# Altium schematic symbol library Resistors.SchLib: 113 symbols (part 2 of 2)
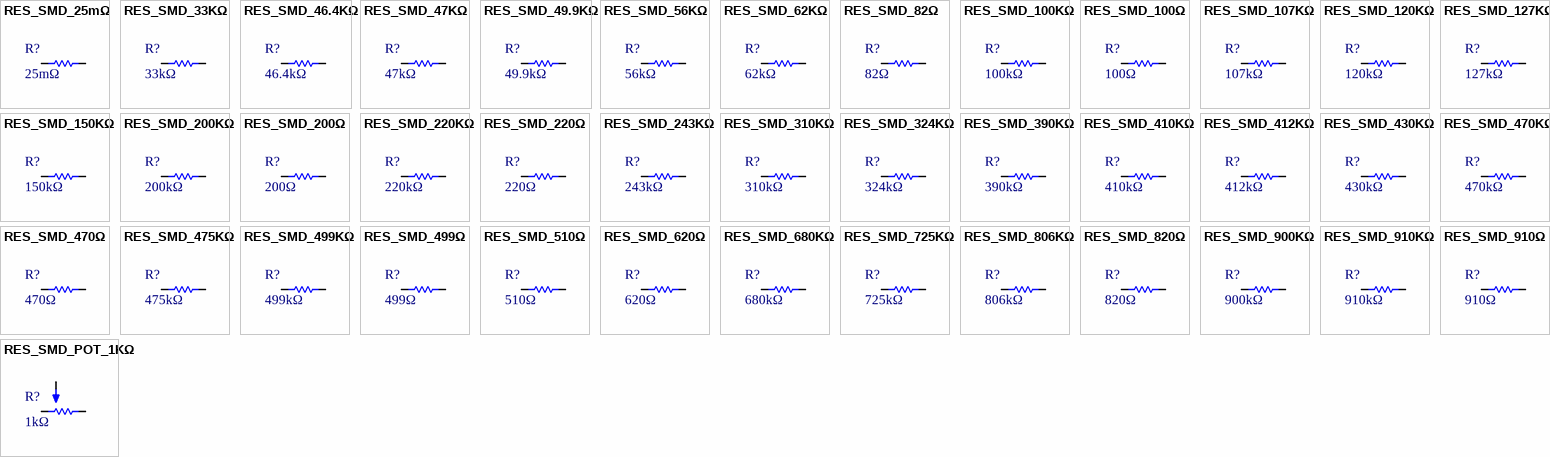
[diagram p3: symbols RES_SMD_25mΩ to RES_SMD_POT_1KΩ]

## RES_SMD_127KΩ
designator R?, comment 127kΩ
Resistor, Thick Film Resistor, SMD, 127kΩ, ±5%, Chip Resistor - Surface Mount, ROHS; Value: 127kΩ
footprint RES_SMD_R0201A_(M0603A) (Resistor, SMD, 0.5x0.25mm, 0201)
footprint RES_SMD_R0201_(M0603) (Resistor, SMD, 0.5x0.25mm, 0201)
footprint RES_SMD_R0402A_(M1005A) (Resistor, SMD, 1.0x0.5mm, 0402)
footprint RES_SMD_R0402_(M1005) (Resistor, SMD, 1.0x0.5mm, 0402)
footprint RES_SMD_R0603A_(M1608A) (Resistor, SMD, 1.6x0.8mm, 0603)
footprint RES_SMD_R0603_(M1608) (Resistor, SMD, 1.6x0.8mm, 0603)
footprint RES_SMD_R0805A_(M2012A) (Resistor, SMD, 2.0x1.3mm, 0805)
footprint RES_SMD_R0805_(M2012) (Resistor, SMD, 2.0x1.3mm, 0805)
footprint RES_SMD_R1206A_(M3216A) (Resistor, SMD, 3.2x1.6mm, 1206)
footprint RES_SMD_R1206_(M3216) (Resistor, SMD, 3.2x1.6mm, 1206)
footprint RES_SMD_R2512_(M6332) (Resistor, SMD, 2510)
footprint RES_SMD_R0603_(M1608)_R0402A_(M1005A) (Resistor, SMD, 1.6x0.8mm, 0603)
pins: 1, 2

## RES_SMD_150KΩ
designator R?, comment 150kΩ
Resistor, Thick Film Resistor, SMD, 150kΩ, ±5%, Chip Resistor - Surface Mount, ROHS; Value: 150kΩ
footprint RES_SMD_R0201A_(M0603A) (Resistor, SMD, 0.5x0.25mm, 0201)
footprint RES_SMD_R0201_(M0603) (Resistor, SMD, 0.5x0.25mm, 0201)
footprint RES_SMD_R0402A_(M1005A) (Resistor, SMD, 1.0x0.5mm, 0402)
footprint RES_SMD_R0402_(M1005) (Resistor, SMD, 1.0x0.5mm, 0402)
footprint RES_SMD_R0603A_(M1608A) (Resistor, SMD, 1.6x0.8mm, 0603)
footprint RES_SMD_R0603_(M1608) (Resistor, SMD, 1.6x0.8mm, 0603)
footprint RES_SMD_R0805A_(M2012A) (Resistor, SMD, 2.0x1.3mm, 0805)
footprint RES_SMD_R0805_(M2012) (Resistor, SMD, 2.0x1.3mm, 0805)
footprint RES_SMD_R1206A_(M3216A) (Resistor, SMD, 3.2x1.6mm, 1206)
footprint RES_SMD_R1206_(M3216) (Resistor, SMD, 3.2x1.6mm, 1206)
footprint RES_SMD_R2512_(M6332) (Resistor, SMD, 2510)
footprint RES_SMD_R0603_(M1608)_R0402A_(M1005A) (Resistor, SMD, 1.6x0.8mm, 0603)
pins: 1, 2

## RES_SMD_200KΩ
designator R?, comment 200kΩ
Resistor, Thick Film Resistor, SMD, 200kΩ, ±5%, Chip Resistor - Surface Mount, ROHS; Value: 200kΩ
footprint RES_SMD_R0201A_(M0603A) (Resistor, SMD, 0.5x0.25mm, 0201)
footprint RES_SMD_R0201_(M0603) (Resistor, SMD, 0.5x0.25mm, 0201)
footprint RES_SMD_R0402A_(M1005A) (Resistor, SMD, 1.0x0.5mm, 0402)
footprint RES_SMD_R0402_(M1005) (Resistor, SMD, 1.0x0.5mm, 0402)
footprint RES_SMD_R0603A_(M1608A) (Resistor, SMD, 1.6x0.8mm, 0603)
footprint RES_SMD_R0603_(M1608) (Resistor, SMD, 1.6x0.8mm, 0603)
footprint RES_SMD_R0805A_(M2012A) (Resistor, SMD, 2.0x1.3mm, 0805)
footprint RES_SMD_R0805_(M2012) (Resistor, SMD, 2.0x1.3mm, 0805)
footprint RES_SMD_R1206A_(M3216A) (Resistor, SMD, 3.2x1.6mm, 1206)
footprint RES_SMD_R1206_(M3216) (Resistor, SMD, 3.2x1.6mm, 1206)
footprint RES_SMD_R2512_(M6332) (Resistor, SMD, 2510)
footprint RES_SMD_R0603_(M1608)_R0402A_(M1005A) (Resistor, SMD, 1.6x0.8mm, 0603)
pins: 1, 2

## RES_SMD_200Ω
designator R?, comment 200Ω
Resistor, Thick Film Resistor, SMD, 200Ω, ±5%, Chip Resistor - Surface Mount, ROHS; Value: 200Ω
footprint RES_SMD_R0201A_(M0603A) (Resistor, SMD, 0.5x0.25mm, 0201)
footprint RES_SMD_R0201_(M0603) (Resistor, SMD, 0.5x0.25mm, 0201)
footprint RES_SMD_R0402A_(M1005A) (Resistor, SMD, 1.0x0.5mm, 0402)
footprint RES_SMD_R0402_(M1005) (Resistor, SMD, 1.0x0.5mm, 0402)
footprint RES_SMD_R0603A_(M1608A) (Resistor, SMD, 1.6x0.8mm, 0603)
footprint RES_SMD_R0603_(M1608) (Resistor, SMD, 1.6x0.8mm, 0603)
footprint RES_SMD_R0805A_(M2012A) (Resistor, SMD, 2.0x1.3mm, 0805)
footprint RES_SMD_R0805_(M2012) (Resistor, SMD, 2.0x1.3mm, 0805)
footprint RES_SMD_R1206A_(M3216A) (Resistor, SMD, 3.2x1.6mm, 1206)
footprint RES_SMD_R1206_(M3216) (Resistor, SMD, 3.2x1.6mm, 1206)
footprint RES_SMD_R2512_(M6332) (Resistor, SMD, 2510)
footprint RES_SMD_R0603_(M1608)_R0402A_(M1005A) (Resistor, SMD, 1.6x0.8mm, 0603)
pins: 1, 2

## RES_SMD_220KΩ
designator R?, comment 220kΩ
Resistor, Thick Film Resistor, SMD, 220kΩ, ±5%, Chip Resistor - Surface Mount, ROHS; Value: 220kΩ
footprint RES_SMD_R0201A_(M0603A) (Resistor, SMD, 0.5x0.25mm, 0201)
footprint RES_SMD_R0201_(M0603) (Resistor, SMD, 0.5x0.25mm, 0201)
footprint RES_SMD_R0402A_(M1005A) (Resistor, SMD, 1.0x0.5mm, 0402)
footprint RES_SMD_R0402_(M1005) (Resistor, SMD, 1.0x0.5mm, 0402)
footprint RES_SMD_R0603A_(M1608A) (Resistor, SMD, 1.6x0.8mm, 0603)
footprint RES_SMD_R0603_(M1608) (Resistor, SMD, 1.6x0.8mm, 0603)
footprint RES_SMD_R0805A_(M2012A) (Resistor, SMD, 2.0x1.3mm, 0805)
footprint RES_SMD_R0805_(M2012) (Resistor, SMD, 2.0x1.3mm, 0805)
footprint RES_SMD_R1206A_(M3216A) (Resistor, SMD, 3.2x1.6mm, 1206)
footprint RES_SMD_R1206_(M3216) (Resistor, SMD, 3.2x1.6mm, 1206)
footprint RES_SMD_R2512_(M6332) (Resistor, SMD, 2510)
footprint RES_SMD_R0603_(M1608)_R0402A_(M1005A) (Resistor, SMD, 1.6x0.8mm, 0603)
pins: 1, 2

## RES_SMD_220Ω
designator R?, comment 220Ω
Resistor, Thick Film Resistor, SMD, 220Ω, ±5%, Chip Resistor - Surface Mount, ROHS; Value: 220Ω
footprint RES_SMD_R0201A_(M0603A) (Resistor, SMD, 0.5x0.25mm, 0201)
footprint RES_SMD_R0201_(M0603) (Resistor, SMD, 0.5x0.25mm, 0201)
footprint RES_SMD_R0402A_(M1005A) (Resistor, SMD, 1.0x0.5mm, 0402)
footprint RES_SMD_R0402_(M1005) (Resistor, SMD, 1.0x0.5mm, 0402)
footprint RES_SMD_R0603A_(M1608A) (Resistor, SMD, 1.6x0.8mm, 0603)
footprint RES_SMD_R0603_(M1608) (Resistor, SMD, 1.6x0.8mm, 0603)
footprint RES_SMD_R0805A_(M2012A) (Resistor, SMD, 2.0x1.3mm, 0805)
footprint RES_SMD_R0805_(M2012) (Resistor, SMD, 2.0x1.3mm, 0805)
footprint RES_SMD_R1206A_(M3216A) (Resistor, SMD, 3.2x1.6mm, 1206)
footprint RES_SMD_R1206_(M3216) (Resistor, SMD, 3.2x1.6mm, 1206)
footprint RES_SMD_R2512_(M6332) (Resistor, SMD, 2510)
footprint RES_SMD_R0603_(M1608)_R0402A_(M1005A) (Resistor, SMD, 1.6x0.8mm, 0603)
pins: 1, 2

## RES_SMD_243KΩ
designator R?, comment 243kΩ
Resistor, Thick Film Resistor, SMD, 243kΩ, ±5%, Chip Resistor - Surface Mount, ROHS; Value: 243kΩ
footprint RES_SMD_R0201A_(M0603A) (Resistor, SMD, 0.5x0.25mm, 0201)
footprint RES_SMD_R0201_(M0603) (Resistor, SMD, 0.5x0.25mm, 0201)
footprint RES_SMD_R0402A_(M1005A) (Resistor, SMD, 1.0x0.5mm, 0402)
footprint RES_SMD_R0402_(M1005) (Resistor, SMD, 1.0x0.5mm, 0402)
footprint RES_SMD_R0603A_(M1608A) (Resistor, SMD, 1.6x0.8mm, 0603)
footprint RES_SMD_R0603_(M1608) (Resistor, SMD, 1.6x0.8mm, 0603)
footprint RES_SMD_R0805A_(M2012A) (Resistor, SMD, 2.0x1.3mm, 0805)
footprint RES_SMD_R0805_(M2012) (Resistor, SMD, 2.0x1.3mm, 0805)
footprint RES_SMD_R1206A_(M3216A) (Resistor, SMD, 3.2x1.6mm, 1206)
footprint RES_SMD_R1206_(M3216) (Resistor, SMD, 3.2x1.6mm, 1206)
footprint RES_SMD_R2512_(M6332) (Resistor, SMD, 2510)
footprint RES_SMD_R0603_(M1608)_R0402A_(M1005A) (Resistor, SMD, 1.6x0.8mm, 0603)
pins: 1, 2

## RES_SMD_310KΩ
designator R?, comment 310kΩ
Resistor, Thick Film Resistor, SMD, 310kΩ, ±5%, Chip Resistor - Surface Mount, ROHS; Value: 310kΩ
footprint RES_SMD_R0201A_(M0603A) (Resistor, SMD, 0.5x0.25mm, 0201)
footprint RES_SMD_R0201_(M0603) (Resistor, SMD, 0.5x0.25mm, 0201)
footprint RES_SMD_R0402A_(M1005A) (Resistor, SMD, 1.0x0.5mm, 0402)
footprint RES_SMD_R0402_(M1005) (Resistor, SMD, 1.0x0.5mm, 0402)
footprint RES_SMD_R0603A_(M1608A) (Resistor, SMD, 1.6x0.8mm, 0603)
footprint RES_SMD_R0603_(M1608) (Resistor, SMD, 1.6x0.8mm, 0603)
footprint RES_SMD_R0805A_(M2012A) (Resistor, SMD, 2.0x1.3mm, 0805)
footprint RES_SMD_R0805_(M2012) (Resistor, SMD, 2.0x1.3mm, 0805)
footprint RES_SMD_R1206A_(M3216A) (Resistor, SMD, 3.2x1.6mm, 1206)
footprint RES_SMD_R1206_(M3216) (Resistor, SMD, 3.2x1.6mm, 1206)
footprint RES_SMD_R2512_(M6332) (Resistor, SMD, 2510)
footprint RES_SMD_R0603_(M1608)_R0402A_(M1005A) (Resistor, SMD, 1.6x0.8mm, 0603)
pins: 1, 2

## RES_SMD_324KΩ
designator R?, comment 324kΩ
Resistor, Thick Film Resistor, SMD, 324kΩ, ±5%, Chip Resistor - Surface Mount, ROHS; Value: 324kΩ
footprint RES_SMD_R0201A_(M0603A) (Resistor, SMD, 0.5x0.25mm, 0201)
footprint RES_SMD_R0201_(M0603) (Resistor, SMD, 0.5x0.25mm, 0201)
footprint RES_SMD_R0402A_(M1005A) (Resistor, SMD, 1.0x0.5mm, 0402)
footprint RES_SMD_R0402_(M1005) (Resistor, SMD, 1.0x0.5mm, 0402)
footprint RES_SMD_R0603A_(M1608A) (Resistor, SMD, 1.6x0.8mm, 0603)
footprint RES_SMD_R0603_(M1608) (Resistor, SMD, 1.6x0.8mm, 0603)
footprint RES_SMD_R0805A_(M2012A) (Resistor, SMD, 2.0x1.3mm, 0805)
footprint RES_SMD_R0805_(M2012) (Resistor, SMD, 2.0x1.3mm, 0805)
footprint RES_SMD_R1206A_(M3216A) (Resistor, SMD, 3.2x1.6mm, 1206)
footprint RES_SMD_R1206_(M3216) (Resistor, SMD, 3.2x1.6mm, 1206)
footprint RES_SMD_R2512_(M6332) (Resistor, SMD, 2510)
footprint RES_SMD_R0603_(M1608)_R0402A_(M1005A) (Resistor, SMD, 1.6x0.8mm, 0603)
pins: 1, 2

## RES_SMD_390KΩ
designator R?, comment 390kΩ
Resistor, Thick Film Resistor, SMD, 390kΩ, ±5%, Chip Resistor - Surface Mount, ROHS; Value: 390kΩ
footprint RES_SMD_R0201A_(M0603A) (Resistor, SMD, 0.5x0.25mm, 0201)
footprint RES_SMD_R0201_(M0603) (Resistor, SMD, 0.5x0.25mm, 0201)
footprint RES_SMD_R0402A_(M1005A) (Resistor, SMD, 1.0x0.5mm, 0402)
footprint RES_SMD_R0402_(M1005) (Resistor, SMD, 1.0x0.5mm, 0402)
footprint RES_SMD_R0603A_(M1608A) (Resistor, SMD, 1.6x0.8mm, 0603)
footprint RES_SMD_R0603_(M1608) (Resistor, SMD, 1.6x0.8mm, 0603)
footprint RES_SMD_R0805A_(M2012A) (Resistor, SMD, 2.0x1.3mm, 0805)
footprint RES_SMD_R0805_(M2012) (Resistor, SMD, 2.0x1.3mm, 0805)
footprint RES_SMD_R1206A_(M3216A) (Resistor, SMD, 3.2x1.6mm, 1206)
footprint RES_SMD_R1206_(M3216) (Resistor, SMD, 3.2x1.6mm, 1206)
footprint RES_SMD_R2512_(M6332) (Resistor, SMD, 2510)
footprint RES_SMD_R0603_(M1608)_R0402A_(M1005A) (Resistor, SMD, 1.6x0.8mm, 0603)
pins: 1, 2

## RES_SMD_410KΩ
designator R?, comment 410kΩ
Resistor, Thick Film Resistor, SMD, 410kΩ, ±5%, Chip Resistor - Surface Mount, ROHS; Value: 410kΩ
footprint RES_SMD_R0201A_(M0603A) (Resistor, SMD, 0.5x0.25mm, 0201)
footprint RES_SMD_R0201_(M0603) (Resistor, SMD, 0.5x0.25mm, 0201)
footprint RES_SMD_R0402A_(M1005A) (Resistor, SMD, 1.0x0.5mm, 0402)
footprint RES_SMD_R0402_(M1005) (Resistor, SMD, 1.0x0.5mm, 0402)
footprint RES_SMD_R0603A_(M1608A) (Resistor, SMD, 1.6x0.8mm, 0603)
footprint RES_SMD_R0603_(M1608) (Resistor, SMD, 1.6x0.8mm, 0603)
footprint RES_SMD_R0805A_(M2012A) (Resistor, SMD, 2.0x1.3mm, 0805)
footprint RES_SMD_R0805_(M2012) (Resistor, SMD, 2.0x1.3mm, 0805)
footprint RES_SMD_R1206A_(M3216A) (Resistor, SMD, 3.2x1.6mm, 1206)
footprint RES_SMD_R1206_(M3216) (Resistor, SMD, 3.2x1.6mm, 1206)
footprint RES_SMD_R2512_(M6332) (Resistor, SMD, 2510)
footprint RES_SMD_R0603_(M1608)_R0402A_(M1005A) (Resistor, SMD, 1.6x0.8mm, 0603)
pins: 1, 2

## RES_SMD_412KΩ
designator R?, comment 412kΩ
Resistor, Thick Film Resistor, SMD, 412kΩ, ±5%, Chip Resistor - Surface Mount, ROHS; Value: 412kΩ
footprint RES_SMD_R0201A_(M0603A) (Resistor, SMD, 0.5x0.25mm, 0201)
footprint RES_SMD_R0201_(M0603) (Resistor, SMD, 0.5x0.25mm, 0201)
footprint RES_SMD_R0402A_(M1005A) (Resistor, SMD, 1.0x0.5mm, 0402)
footprint RES_SMD_R0402_(M1005) (Resistor, SMD, 1.0x0.5mm, 0402)
footprint RES_SMD_R0603A_(M1608A) (Resistor, SMD, 1.6x0.8mm, 0603)
footprint RES_SMD_R0603_(M1608) (Resistor, SMD, 1.6x0.8mm, 0603)
footprint RES_SMD_R0805A_(M2012A) (Resistor, SMD, 2.0x1.3mm, 0805)
footprint RES_SMD_R0805_(M2012) (Resistor, SMD, 2.0x1.3mm, 0805)
footprint RES_SMD_R1206A_(M3216A) (Resistor, SMD, 3.2x1.6mm, 1206)
footprint RES_SMD_R1206_(M3216) (Resistor, SMD, 3.2x1.6mm, 1206)
footprint RES_SMD_R2512_(M6332) (Resistor, SMD, 2510)
footprint RES_SMD_R0603_(M1608)_R0402A_(M1005A) (Resistor, SMD, 1.6x0.8mm, 0603)
pins: 1, 2

## RES_SMD_430KΩ
designator R?, comment 430kΩ
Resistor, Thick Film Resistor, SMD, 430kΩ, ±5%, Chip Resistor - Surface Mount, ROHS; Value: 430kΩ
footprint RES_SMD_R0201A_(M0603A) (Resistor, SMD, 0.5x0.25mm, 0201)
footprint RES_SMD_R0201_(M0603) (Resistor, SMD, 0.5x0.25mm, 0201)
footprint RES_SMD_R0402A_(M1005A) (Resistor, SMD, 1.0x0.5mm, 0402)
footprint RES_SMD_R0402_(M1005) (Resistor, SMD, 1.0x0.5mm, 0402)
footprint RES_SMD_R0603A_(M1608A) (Resistor, SMD, 1.6x0.8mm, 0603)
footprint RES_SMD_R0603_(M1608) (Resistor, SMD, 1.6x0.8mm, 0603)
footprint RES_SMD_R0805A_(M2012A) (Resistor, SMD, 2.0x1.3mm, 0805)
footprint RES_SMD_R0805_(M2012) (Resistor, SMD, 2.0x1.3mm, 0805)
footprint RES_SMD_R1206A_(M3216A) (Resistor, SMD, 3.2x1.6mm, 1206)
footprint RES_SMD_R1206_(M3216) (Resistor, SMD, 3.2x1.6mm, 1206)
footprint RES_SMD_R2512_(M6332) (Resistor, SMD, 2510)
footprint RES_SMD_R0603_(M1608)_R0402A_(M1005A) (Resistor, SMD, 1.6x0.8mm, 0603)
pins: 1, 2

## RES_SMD_470KΩ
designator R?, comment 470kΩ
Resistor, Thick Film Resistor, SMD, 470kΩ, ±5%, Chip Resistor - Surface Mount, ROHS; Value: 470kΩ
footprint RES_SMD_R0201A_(M0603A) (Resistor, SMD, 0.5x0.25mm, 0201)
footprint RES_SMD_R0201_(M0603) (Resistor, SMD, 0.5x0.25mm, 0201)
footprint RES_SMD_R0402A_(M1005A) (Resistor, SMD, 1.0x0.5mm, 0402)
footprint RES_SMD_R0402_(M1005) (Resistor, SMD, 1.0x0.5mm, 0402)
footprint RES_SMD_R0603A_(M1608A) (Resistor, SMD, 1.6x0.8mm, 0603)
footprint RES_SMD_R0603_(M1608) (Resistor, SMD, 1.6x0.8mm, 0603)
footprint RES_SMD_R0805A_(M2012A) (Resistor, SMD, 2.0x1.3mm, 0805)
footprint RES_SMD_R0805_(M2012) (Resistor, SMD, 2.0x1.3mm, 0805)
footprint RES_SMD_R1206A_(M3216A) (Resistor, SMD, 3.2x1.6mm, 1206)
footprint RES_SMD_R1206_(M3216) (Resistor, SMD, 3.2x1.6mm, 1206)
footprint RES_SMD_R2512_(M6332) (Resistor, SMD, 2510)
footprint RES_SMD_R0603_(M1608)_R0402A_(M1005A) (Resistor, SMD, 1.6x0.8mm, 0603)
pins: 1, 2

## RES_SMD_470Ω
designator R?, comment 470Ω
Resistor, Thick Film Resistor, SMD, 470Ω, ±5%, Chip Resistor - Surface Mount, ROHS; Value: 470Ω
footprint RES_SMD_R0201A_(M0603A) (Resistor, SMD, 0.5x0.25mm, 0201)
footprint RES_SMD_R0201_(M0603) (Resistor, SMD, 0.5x0.25mm, 0201)
footprint RES_SMD_R0402A_(M1005A) (Resistor, SMD, 1.0x0.5mm, 0402)
footprint RES_SMD_R0402_(M1005) (Resistor, SMD, 1.0x0.5mm, 0402)
footprint RES_SMD_R0603A_(M1608A) (Resistor, SMD, 1.6x0.8mm, 0603)
footprint RES_SMD_R0603_(M1608) (Resistor, SMD, 1.6x0.8mm, 0603)
footprint RES_SMD_R0805A_(M2012A) (Resistor, SMD, 2.0x1.3mm, 0805)
footprint RES_SMD_R0805_(M2012) (Resistor, SMD, 2.0x1.3mm, 0805)
footprint RES_SMD_R1206A_(M3216A) (Resistor, SMD, 3.2x1.6mm, 1206)
footprint RES_SMD_R1206_(M3216) (Resistor, SMD, 3.2x1.6mm, 1206)
footprint RES_SMD_R2512_(M6332) (Resistor, SMD, 2510)
footprint RES_SMD_R0603_(M1608)_R0402A_(M1005A) (Resistor, SMD, 1.6x0.8mm, 0603)
pins: 1, 2

## RES_SMD_475KΩ
designator R?, comment 475kΩ
Resistor, Thick Film Resistor, SMD, 475kΩ, ±5%, Chip Resistor - Surface Mount, ROHS; Value: 475kΩ
footprint RES_SMD_R0201A_(M0603A) (Resistor, SMD, 0.5x0.25mm, 0201)
footprint RES_SMD_R0201_(M0603) (Resistor, SMD, 0.5x0.25mm, 0201)
footprint RES_SMD_R0402A_(M1005A) (Resistor, SMD, 1.0x0.5mm, 0402)
footprint RES_SMD_R0402_(M1005) (Resistor, SMD, 1.0x0.5mm, 0402)
footprint RES_SMD_R0603A_(M1608A) (Resistor, SMD, 1.6x0.8mm, 0603)
footprint RES_SMD_R0603_(M1608) (Resistor, SMD, 1.6x0.8mm, 0603)
footprint RES_SMD_R0805A_(M2012A) (Resistor, SMD, 2.0x1.3mm, 0805)
footprint RES_SMD_R0805_(M2012) (Resistor, SMD, 2.0x1.3mm, 0805)
footprint RES_SMD_R1206A_(M3216A) (Resistor, SMD, 3.2x1.6mm, 1206)
footprint RES_SMD_R1206_(M3216) (Resistor, SMD, 3.2x1.6mm, 1206)
footprint RES_SMD_R2512_(M6332) (Resistor, SMD, 2510)
footprint RES_SMD_R0603_(M1608)_R0402A_(M1005A) (Resistor, SMD, 1.6x0.8mm, 0603)
pins: 1, 2

## RES_SMD_499KΩ
designator R?, comment 499kΩ
Resistor, Thick Film Resistor, SMD, 499kΩ, ±5%, Chip Resistor - Surface Mount, ROHS; Value: 499kΩ
footprint RES_SMD_R0201A_(M0603A) (Resistor, SMD, 0.5x0.25mm, 0201)
footprint RES_SMD_R0201_(M0603) (Resistor, SMD, 0.5x0.25mm, 0201)
footprint RES_SMD_R0402A_(M1005A) (Resistor, SMD, 1.0x0.5mm, 0402)
footprint RES_SMD_R0402_(M1005) (Resistor, SMD, 1.0x0.5mm, 0402)
footprint RES_SMD_R0603A_(M1608A) (Resistor, SMD, 1.6x0.8mm, 0603)
footprint RES_SMD_R0603_(M1608) (Resistor, SMD, 1.6x0.8mm, 0603)
footprint RES_SMD_R0805A_(M2012A) (Resistor, SMD, 2.0x1.3mm, 0805)
footprint RES_SMD_R0805_(M2012) (Resistor, SMD, 2.0x1.3mm, 0805)
footprint RES_SMD_R1206A_(M3216A) (Resistor, SMD, 3.2x1.6mm, 1206)
footprint RES_SMD_R1206_(M3216) (Resistor, SMD, 3.2x1.6mm, 1206)
footprint RES_SMD_R2512_(M6332) (Resistor, SMD, 2510)
footprint RES_SMD_R0603_(M1608)_R0402A_(M1005A) (Resistor, SMD, 1.6x0.8mm, 0603)
pins: 1, 2

## RES_SMD_499Ω
designator R?, comment 499Ω
Resistor, Thick Film Resistor, SMD, 499Ω, ±5%, Chip Resistor - Surface Mount, ROHS; Value: 499Ω
footprint RES_SMD_R0201A_(M0603A) (Resistor, SMD, 0.5x0.25mm, 0201)
footprint RES_SMD_R0201_(M0603) (Resistor, SMD, 0.5x0.25mm, 0201)
footprint RES_SMD_R0402A_(M1005A) (Resistor, SMD, 1.0x0.5mm, 0402)
footprint RES_SMD_R0402_(M1005) (Resistor, SMD, 1.0x0.5mm, 0402)
footprint RES_SMD_R0603A_(M1608A) (Resistor, SMD, 1.6x0.8mm, 0603)
footprint RES_SMD_R0603_(M1608) (Resistor, SMD, 1.6x0.8mm, 0603)
footprint RES_SMD_R0805A_(M2012A) (Resistor, SMD, 2.0x1.3mm, 0805)
footprint RES_SMD_R0805_(M2012) (Resistor, SMD, 2.0x1.3mm, 0805)
footprint RES_SMD_R1206A_(M3216A) (Resistor, SMD, 3.2x1.6mm, 1206)
footprint RES_SMD_R1206_(M3216) (Resistor, SMD, 3.2x1.6mm, 1206)
footprint RES_SMD_R2512_(M6332) (Resistor, SMD, 2510)
footprint RES_SMD_R0603_(M1608)_R0402A_(M1005A) (Resistor, SMD, 1.6x0.8mm, 0603)
pins: 1, 2

## RES_SMD_510Ω
designator R?, comment 510Ω
Resistor, Thick Film Resistor, SMD, 510Ω, ±5%, Chip Resistor - Surface Mount, ROHS; Value: 510Ω
footprint RES_SMD_R0201A_(M0603A) (Resistor, SMD, 0.5x0.25mm, 0201)
footprint RES_SMD_R0201_(M0603) (Resistor, SMD, 0.5x0.25mm, 0201)
footprint RES_SMD_R0402A_(M1005A) (Resistor, SMD, 1.0x0.5mm, 0402)
footprint RES_SMD_R0402_(M1005) (Resistor, SMD, 1.0x0.5mm, 0402)
footprint RES_SMD_R0603A_(M1608A) (Resistor, SMD, 1.6x0.8mm, 0603)
footprint RES_SMD_R0603_(M1608) (Resistor, SMD, 1.6x0.8mm, 0603)
footprint RES_SMD_R0805A_(M2012A) (Resistor, SMD, 2.0x1.3mm, 0805)
footprint RES_SMD_R0805_(M2012) (Resistor, SMD, 2.0x1.3mm, 0805)
footprint RES_SMD_R1206A_(M3216A) (Resistor, SMD, 3.2x1.6mm, 1206)
footprint RES_SMD_R1206_(M3216) (Resistor, SMD, 3.2x1.6mm, 1206)
footprint RES_SMD_R2512_(M6332) (Resistor, SMD, 2510)
footprint RES_SMD_R0603_(M1608)_R0402A_(M1005A) (Resistor, SMD, 1.6x0.8mm, 0603)
pins: 1, 2

## RES_SMD_620Ω
designator R?, comment 620Ω
Resistor, Thick Film Resistor, SMD, 620Ω, ±5%, Chip Resistor - Surface Mount, ROHS; Value: 620Ω
footprint RES_SMD_R0201A_(M0603A) (Resistor, SMD, 0.5x0.25mm, 0201)
footprint RES_SMD_R0201_(M0603) (Resistor, SMD, 0.5x0.25mm, 0201)
footprint RES_SMD_R0402A_(M1005A) (Resistor, SMD, 1.0x0.5mm, 0402)
footprint RES_SMD_R0402_(M1005) (Resistor, SMD, 1.0x0.5mm, 0402)
footprint RES_SMD_R0603A_(M1608A) (Resistor, SMD, 1.6x0.8mm, 0603)
footprint RES_SMD_R0603_(M1608) (Resistor, SMD, 1.6x0.8mm, 0603)
footprint RES_SMD_R0805A_(M2012A) (Resistor, SMD, 2.0x1.3mm, 0805)
footprint RES_SMD_R0805_(M2012) (Resistor, SMD, 2.0x1.3mm, 0805)
footprint RES_SMD_R1206A_(M3216A) (Resistor, SMD, 3.2x1.6mm, 1206)
footprint RES_SMD_R1206_(M3216) (Resistor, SMD, 3.2x1.6mm, 1206)
footprint RES_SMD_R2512_(M6332) (Resistor, SMD, 2510)
footprint RES_SMD_R0603_(M1608)_R0402A_(M1005A) (Resistor, SMD, 1.6x0.8mm, 0603)
pins: 1, 2

## RES_SMD_680KΩ
designator R?, comment 680kΩ
Resistor, Thick Film Resistor, SMD, 680kΩ, ±5%, Chip Resistor - Surface Mount, ROHS; Value: 680kΩ
footprint RES_SMD_R0201A_(M0603A) (Resistor, SMD, 0.5x0.25mm, 0201)
footprint RES_SMD_R0201_(M0603) (Resistor, SMD, 0.5x0.25mm, 0201)
footprint RES_SMD_R0402A_(M1005A) (Resistor, SMD, 1.0x0.5mm, 0402)
footprint RES_SMD_R0402_(M1005) (Resistor, SMD, 1.0x0.5mm, 0402)
footprint RES_SMD_R0603A_(M1608A) (Resistor, SMD, 1.6x0.8mm, 0603)
footprint RES_SMD_R0603_(M1608) (Resistor, SMD, 1.6x0.8mm, 0603)
footprint RES_SMD_R0805A_(M2012A) (Resistor, SMD, 2.0x1.3mm, 0805)
footprint RES_SMD_R0805_(M2012) (Resistor, SMD, 2.0x1.3mm, 0805)
footprint RES_SMD_R1206A_(M3216A) (Resistor, SMD, 3.2x1.6mm, 1206)
footprint RES_SMD_R1206_(M3216) (Resistor, SMD, 3.2x1.6mm, 1206)
footprint RES_SMD_R2512_(M6332) (Resistor, SMD, 2510)
footprint RES_SMD_R0603_(M1608)_R0402A_(M1005A) (Resistor, SMD, 1.6x0.8mm, 0603)
pins: 1, 2

## RES_SMD_725KΩ
designator R?, comment 725kΩ
Resistor, Thick Film Resistor, SMD, 725kΩ, ±5%, Chip Resistor - Surface Mount, ROHS; Value: 725kΩ
footprint RES_SMD_R0201A_(M0603A) (Resistor, SMD, 0.5x0.25mm, 0201)
footprint RES_SMD_R0201_(M0603) (Resistor, SMD, 0.5x0.25mm, 0201)
footprint RES_SMD_R0402A_(M1005A) (Resistor, SMD, 1.0x0.5mm, 0402)
footprint RES_SMD_R0402_(M1005) (Resistor, SMD, 1.0x0.5mm, 0402)
footprint RES_SMD_R0603A_(M1608A) (Resistor, SMD, 1.6x0.8mm, 0603)
footprint RES_SMD_R0603_(M1608) (Resistor, SMD, 1.6x0.8mm, 0603)
footprint RES_SMD_R0805A_(M2012A) (Resistor, SMD, 2.0x1.3mm, 0805)
footprint RES_SMD_R0805_(M2012) (Resistor, SMD, 2.0x1.3mm, 0805)
footprint RES_SMD_R1206A_(M3216A) (Resistor, SMD, 3.2x1.6mm, 1206)
footprint RES_SMD_R1206_(M3216) (Resistor, SMD, 3.2x1.6mm, 1206)
footprint RES_SMD_R2512_(M6332) (Resistor, SMD, 2510)
footprint RES_SMD_R0603_(M1608)_R0402A_(M1005A) (Resistor, SMD, 1.6x0.8mm, 0603)
pins: 1, 2

## RES_SMD_806KΩ
designator R?, comment 806kΩ
Resistor, Thick Film Resistor, SMD, 806kΩ, ±5%, Chip Resistor - Surface Mount, ROHS; Value: 806kΩ
footprint RES_SMD_R0201A_(M0603A) (Resistor, SMD, 0.5x0.25mm, 0201)
footprint RES_SMD_R0201_(M0603) (Resistor, SMD, 0.5x0.25mm, 0201)
footprint RES_SMD_R0402A_(M1005A) (Resistor, SMD, 1.0x0.5mm, 0402)
footprint RES_SMD_R0402_(M1005) (Resistor, SMD, 1.0x0.5mm, 0402)
footprint RES_SMD_R0603A_(M1608A) (Resistor, SMD, 1.6x0.8mm, 0603)
footprint RES_SMD_R0603_(M1608) (Resistor, SMD, 1.6x0.8mm, 0603)
footprint RES_SMD_R0805A_(M2012A) (Resistor, SMD, 2.0x1.3mm, 0805)
footprint RES_SMD_R0805_(M2012) (Resistor, SMD, 2.0x1.3mm, 0805)
footprint RES_SMD_R1206A_(M3216A) (Resistor, SMD, 3.2x1.6mm, 1206)
footprint RES_SMD_R1206_(M3216) (Resistor, SMD, 3.2x1.6mm, 1206)
footprint RES_SMD_R2512_(M6332) (Resistor, SMD, 2510)
footprint RES_SMD_R0603_(M1608)_R0402A_(M1005A) (Resistor, SMD, 1.6x0.8mm, 0603)
pins: 1, 2

## RES_SMD_820Ω
designator R?, comment 820Ω
Resistor, Thick Film Resistor, SMD, 820Ω, ±5%, Chip Resistor - Surface Mount, ROHS; Value: 820Ω
footprint RES_SMD_R0201A_(M0603A) (Resistor, SMD, 0.5x0.25mm, 0201)
footprint RES_SMD_R0201_(M0603) (Resistor, SMD, 0.5x0.25mm, 0201)
footprint RES_SMD_R0402A_(M1005A) (Resistor, SMD, 1.0x0.5mm, 0402)
footprint RES_SMD_R0402_(M1005) (Resistor, SMD, 1.0x0.5mm, 0402)
footprint RES_SMD_R0603A_(M1608A) (Resistor, SMD, 1.6x0.8mm, 0603)
footprint RES_SMD_R0603_(M1608) (Resistor, SMD, 1.6x0.8mm, 0603)
footprint RES_SMD_R0805A_(M2012A) (Resistor, SMD, 2.0x1.3mm, 0805)
footprint RES_SMD_R0805_(M2012) (Resistor, SMD, 2.0x1.3mm, 0805)
footprint RES_SMD_R1206A_(M3216A) (Resistor, SMD, 3.2x1.6mm, 1206)
footprint RES_SMD_R1206_(M3216) (Resistor, SMD, 3.2x1.6mm, 1206)
footprint RES_SMD_R2512_(M6332) (Resistor, SMD, 2510)
footprint RES_SMD_R0603_(M1608)_R0402A_(M1005A) (Resistor, SMD, 1.6x0.8mm, 0603)
pins: 1, 2

## RES_SMD_900KΩ
designator R?, comment 900kΩ
Resistor, Thick Film Resistor, SMD, 900kΩ, ±5%, Chip Resistor - Surface Mount, ROHS; Value: 900kΩ
footprint RES_SMD_R0201A_(M0603A) (Resistor, SMD, 0.5x0.25mm, 0201)
footprint RES_SMD_R0201_(M0603) (Resistor, SMD, 0.5x0.25mm, 0201)
footprint RES_SMD_R0402A_(M1005A) (Resistor, SMD, 1.0x0.5mm, 0402)
footprint RES_SMD_R0402_(M1005) (Resistor, SMD, 1.0x0.5mm, 0402)
footprint RES_SMD_R0603A_(M1608A) (Resistor, SMD, 1.6x0.8mm, 0603)
footprint RES_SMD_R0603_(M1608) (Resistor, SMD, 1.6x0.8mm, 0603)
footprint RES_SMD_R0805A_(M2012A) (Resistor, SMD, 2.0x1.3mm, 0805)
footprint RES_SMD_R0805_(M2012) (Resistor, SMD, 2.0x1.3mm, 0805)
footprint RES_SMD_R1206A_(M3216A) (Resistor, SMD, 3.2x1.6mm, 1206)
footprint RES_SMD_R1206_(M3216) (Resistor, SMD, 3.2x1.6mm, 1206)
footprint RES_SMD_R2512_(M6332) (Resistor, SMD, 2510)
footprint RES_SMD_R0603_(M1608)_R0402A_(M1005A) (Resistor, SMD, 1.6x0.8mm, 0603)
pins: 1, 2

## RES_SMD_910KΩ
designator R?, comment 910kΩ
Resistor, Thick Film Resistor, SMD, 910kΩ, ±5%, Chip Resistor - Surface Mount, ROHS; Value: 910kΩ
footprint RES_SMD_R0201A_(M0603A) (Resistor, SMD, 0.5x0.25mm, 0201)
footprint RES_SMD_R0201_(M0603) (Resistor, SMD, 0.5x0.25mm, 0201)
footprint RES_SMD_R0402A_(M1005A) (Resistor, SMD, 1.0x0.5mm, 0402)
footprint RES_SMD_R0402_(M1005) (Resistor, SMD, 1.0x0.5mm, 0402)
footprint RES_SMD_R0603A_(M1608A) (Resistor, SMD, 1.6x0.8mm, 0603)
footprint RES_SMD_R0603_(M1608) (Resistor, SMD, 1.6x0.8mm, 0603)
footprint RES_SMD_R0805A_(M2012A) (Resistor, SMD, 2.0x1.3mm, 0805)
footprint RES_SMD_R0805_(M2012) (Resistor, SMD, 2.0x1.3mm, 0805)
footprint RES_SMD_R1206A_(M3216A) (Resistor, SMD, 3.2x1.6mm, 1206)
footprint RES_SMD_R1206_(M3216) (Resistor, SMD, 3.2x1.6mm, 1206)
footprint RES_SMD_R2512_(M6332) (Resistor, SMD, 2510)
footprint RES_SMD_R0603_(M1608)_R0402A_(M1005A) (Resistor, SMD, 1.6x0.8mm, 0603)
pins: 1, 2

## RES_SMD_910Ω
designator R?, comment 910Ω
Resistor, Thick Film Resistor, SMD, 910Ω, ±5%, Chip Resistor - Surface Mount, ROHS; Value: 910Ω
footprint RES_SMD_R0201A_(M0603A) (Resistor, SMD, 0.5x0.25mm, 0201)
footprint RES_SMD_R0201_(M0603) (Resistor, SMD, 0.5x0.25mm, 0201)
footprint RES_SMD_R0402A_(M1005A) (Resistor, SMD, 1.0x0.5mm, 0402)
footprint RES_SMD_R0402_(M1005) (Resistor, SMD, 1.0x0.5mm, 0402)
footprint RES_SMD_R0603A_(M1608A) (Resistor, SMD, 1.6x0.8mm, 0603)
footprint RES_SMD_R0603_(M1608) (Resistor, SMD, 1.6x0.8mm, 0603)
footprint RES_SMD_R0805A_(M2012A) (Resistor, SMD, 2.0x1.3mm, 0805)
footprint RES_SMD_R0805_(M2012) (Resistor, SMD, 2.0x1.3mm, 0805)
footprint RES_SMD_R1206A_(M3216A) (Resistor, SMD, 3.2x1.6mm, 1206)
footprint RES_SMD_R1206_(M3216) (Resistor, SMD, 3.2x1.6mm, 1206)
footprint RES_SMD_R2512_(M6332) (Resistor, SMD, 2510)
footprint RES_SMD_R0603_(M1608)_R0402A_(M1005A) (Resistor, SMD, 1.6x0.8mm, 0603)
pins: 1, 2

## RES_SMD_POT_1KΩ
designator R?, comment 1kΩ
Resistor, Potentiometer, SMD, SMD-3P, 3.9x3.1mm, Potentiometer, 1kΩ, ±25%, 150mW, Potentiometers, Variable Resistors, ROHS; Value: 1kΩ
footprint TC33X
pins: 1, 2, 3

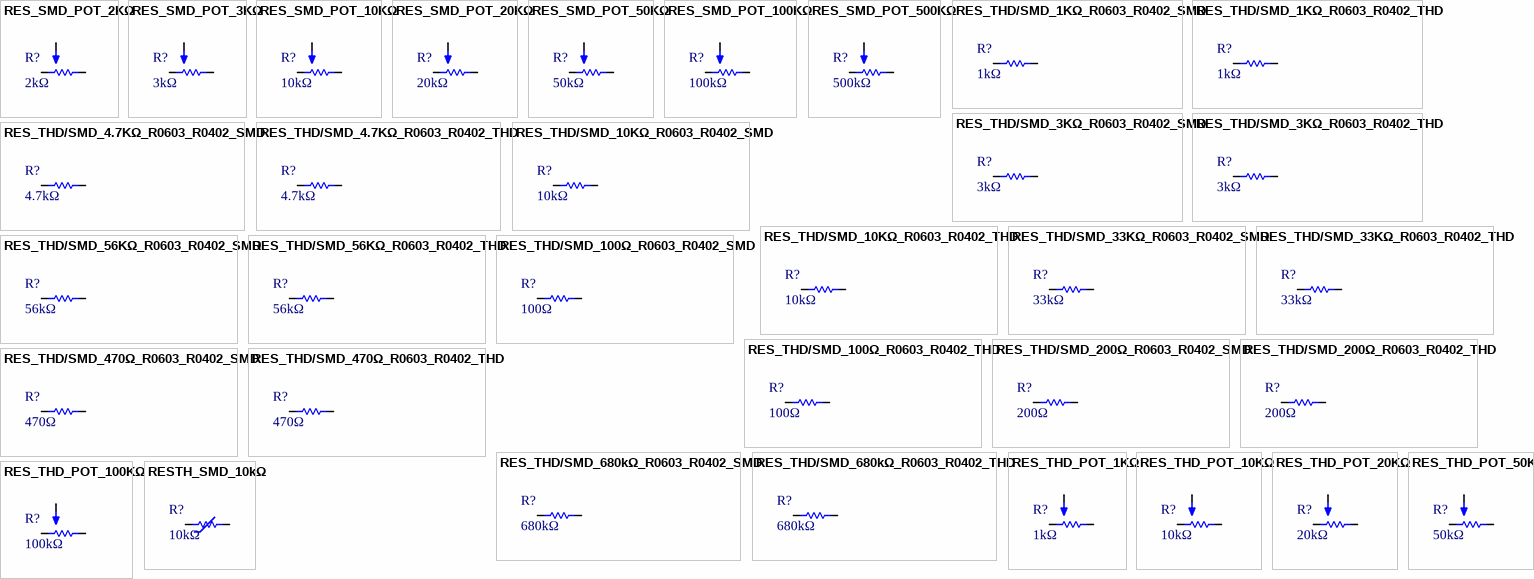
[diagram p2: symbols RES_SMD_POT_2KΩ to RESTH_SMD_10kΩ]

## RES_SMD_POT_2KΩ
designator R?, comment 2kΩ
Resistor, Potentiometer, SMD, SMD-3P, 3.9x3.1mm, Potentiometer, 2kΩ, ±25%, 150mW, Potentiometers, Variable Resistors, ROHS; Value: 2kΩ
footprint TC33X
pins: 1, 2, 3

## RES_SMD_POT_3KΩ
designator R?, comment 3kΩ
Resistor, Potentiometer, SMD, SMD-3P, 3.9x3.1mm, Potentiometer, 3kΩ, ±25%, 150mW, Potentiometers, Variable Resistors, ROHS; Value: 3kΩ
footprint TC33X
pins: 1, 2, 3

## RES_SMD_POT_10KΩ
designator R?, comment 10kΩ
Resistor, Potentiometer, SMD, SMD-3P, 3.9x3.1mm, Potentiometer, 10kΩ, ±25%, 150mW, Potentiometers, Variable Resistors, ROHS; Value: 10kΩ
footprint TC33X
pins: 1, 2, 3

## RES_SMD_POT_20KΩ
designator R?, comment 20kΩ
Resistor, Potentiometer, SMD, SMD-3P, 3.9x3.1mm, Potentiometer, 20kΩ, ±25%, 150mW, Potentiometers, Variable Resistors, ROHS; Value: 20kΩ
footprint TC33X
pins: 1, 2, 3

## RES_SMD_POT_50KΩ
designator R?, comment 50kΩ
Resistor, Potentiometer, SMD, SMD-3P, 3.9x3.1mm, Potentiometer, 50kΩ, ±25%, 150mW, Potentiometers, Variable Resistors, ROHS; Value: 50kΩ
footprint TC33X
pins: 1, 2, 3

## RES_SMD_POT_100KΩ
designator R?, comment 100kΩ
Resistor, Potentiometer, SMD, SMD-3P, 3.9x3.1mm, Potentiometer, 100kΩ, ±25%, 150mW, Potentiometers, Variable Resistors, ROHS; Value: 100kΩ
footprint TC33X
pins: 1, 2, 3

## RES_SMD_POT_500KΩ
designator R?, comment 500kΩ
Resistor, Potentiometer, SMD, SMD-3P, 3.9x3.1mm, Potentiometer, 500kΩ, ±25%, 150mW, Potentiometers, Variable Resistors, ROHS; Value: 500kΩ
footprint TC33X
pins: 1, 2, 3

## RES_THD/SMD_1KΩ_R0603_R0402_SMD
designator R?, comment 1kΩ
Resistor, Thick Film Resistor, SMD, 1kΩ, ±5%, Chip Resistor - Surface Mount, ROHS; Value: 1kΩ
footprint RES_THD/SMD_R0603_R0402_SMD (Resistor, Through Hole)
footprint RES_THD/SMD_R0603_SMD (Resistor, Through Hole)
footprint RES_THD/SMD_VERTICAL_R0603_SMD (Resistor, Through Hole & SMD, Vertical Mount)
footprint RES_THD/SMD_R0603_R0402_1K_SMD (Resistor, Through Hole)
footprint RES_THD/SMD_VERTICAL_R0603_R0402_1K_SMD (Resistor, Through Hole & SMD 0603, Vertical Mount, SMD 3D Model 1k, ±1%)
pins: 1, 2

## RES_THD/SMD_1KΩ_R0603_R0402_THD
designator R?, comment 1kΩ
Resistor, Metal Film Resistor, Through Hole, D2.3xL6.5mm, 1kΩ, ±1%, 250mW, Through Hole Resistors, ROHS; Value: 1kΩ
footprint RES_THD (Resistor, Through Hole)
footprint RES_THD/SMD_R0603_R0402_THD (Resistor, Through Hole)
footprint RES_THD/SMD_R0603_THD (Resistor, Through Hole)
footprint RES_THD/SMD_VERTICAL_R0603_THD (Resistor, Through Hole & SMD, Vertical Mount)
footprint RES_THD_VERTICAL (Resistor, Through Hole, Vertical Mount)
footprint RES_THD/SMD_R0603_R0402_1K_THD (Resistor, Through Hole)
footprint RES_THD/SMD_VERTICAL_R0603_R0402_1K_THD (Resistor, Through Hole & SMD 0603, Vertical Mount, THD 3D Model 1k, ±1%)
pins: 1, 2
1 alternate drawing of the same symbol

## RES_THD/SMD_3KΩ_R0603_R0402_SMD
designator R?, comment 3kΩ
Resistor, Thick Film Resistor, SMD, 3kΩ, ±5%, Chip Resistor - Surface Mount, ROHS; Value: 3kΩ
footprint RES_THD/SMD_R0603_R0402_SMD (Resistor, Through Hole)
footprint RES_THD/SMD_R0603_SMD (Resistor, Through Hole)
footprint RES_THD/SMD_VERTICAL_R0603_SMD (Resistor, Through Hole & SMD, Vertical Mount)
footprint RES_THD/SMD_R0603_R0402_3K_SMD (Resistor, Through Hole)
footprint RES_THD/SMD_VERTICAL_R0603_R0402_3K_SMD (Resistor, Through Hole & SMD 0603, Vertical Mount, SMD 3D Model 3k, ±1%)
pins: 1, 2

## RES_THD/SMD_3KΩ_R0603_R0402_THD
designator R?, comment 3kΩ
Resistor, Metal Film Resistor, Through Hole, D2.3xL6.5mm, 3kΩ, ±1%, 250mW, Through Hole Resistors, ROHS; Value: 3kΩ
footprint RES_THD (Resistor, Through Hole)
footprint RES_THD/SMD_R0603_R0402_THD (Resistor, Through Hole)
footprint RES_THD/SMD_R0603_THD (Resistor, Through Hole)
footprint RES_THD/SMD_VERTICAL_R0603_THD (Resistor, Through Hole & SMD, Vertical Mount)
footprint RES_THD_VERTICAL (Resistor, Through Hole, Vertical Mount)
footprint RES_THD/SMD_R0603_R0402_3K_THD (Resistor, Through Hole)
footprint RES_THD/SMD_VERTICAL_R0603_R0402_3K_THD (Resistor, Through Hole & SMD 0603, Vertical Mount, THD 3D Model 3k, ±1%)
pins: 1, 2

## RES_THD/SMD_4.7KΩ_R0603_R0402_SMD
designator R?, comment 4.7kΩ
Resistor, Thick Film Resistor, SMD, 4.7kΩ, ±5%, Chip Resistor - Surface Mount, ROHS; Value: 4.7kΩ
footprint RES_THD/SMD_R0603_R0402_SMD (Resistor, Through Hole)
footprint RES_THD/SMD_R0603_SMD (Resistor, Through Hole)
footprint RES_THD/SMD_VERTICAL_R0603_SMD (Resistor, Through Hole & SMD, Vertical Mount)
footprint RES_THD/SMD_R0603_R0402_4.7K_SMD (Resistor, Through Hole)
footprint RES_THD/SMD_VERTICAL_R0603_R0402_4.7K_SMD (Resistor, Through Hole & SMD 0603, Vertical Mount, SMD 3D Model 4.7k, ±1%)
pins: 1, 2

## RES_THD/SMD_4.7KΩ_R0603_R0402_THD
designator R?, comment 4.7kΩ
Resistor, Metal Film Resistor, Through Hole, D2.3xL6.5mm, 4.7kΩ, ±1%, 250mW, Through Hole Resistors, ROHS; Value: 4.7kΩ
footprint RES_THD (Resistor, Through Hole)
footprint RES_THD/SMD_R0603_R0402_THD (Resistor, Through Hole)
footprint RES_THD/SMD_R0603_THD (Resistor, Through Hole)
footprint RES_THD/SMD_VERTICAL_R0603_THD (Resistor, Through Hole & SMD, Vertical Mount)
footprint RES_THD_VERTICAL (Resistor, Through Hole, Vertical Mount)
footprint RES_THD/SMD_R0603_R0402_4.7K_THD (Resistor, Through Hole)
footprint RES_THD/SMD_VERTICAL_R0603_R0402_4.7K_THD (Resistor, Through Hole & SMD 0603, Vertical Mount, THD 3D Model 4.7k, ±1%)
pins: 1, 2

## RES_THD/SMD_10KΩ_R0603_R0402_SMD
designator R?, comment 10kΩ
Resistor, Thick Film Resistor, SMD, 10kΩ, ±5%, Chip Resistor - Surface Mount, ROHS; Value: 10kΩ
footprint RES_THD/SMD_R0603_R0402_10K_SMD (Resistor, Through Hole)
footprint RES_THD/SMD_R0603_R0402_BOTTOM_10K_SMD
footprint RES_THD/SMD_R0603_R0402_SMD (Resistor, Through Hole)
footprint RES_THD/SMD_VERTICAL_R0603_R0402_10K_SMD (Resistor, Through Hole & SMD 0603, Vertical Mount, SMD 3D Model 10k, ±1%)
footprint RES_THD/SMD_VERTICAL_R0603_R0402_SMD (Resistor, Through Hole & SMD, Vertical Mount)
pins: 1, 2

## RES_THD/SMD_10KΩ_R0603_R0402_THD
designator R?, comment 10kΩ
Resistor, Metal Film Resistor, Through Hole, D2.3xL6.5mm, 10kΩ, ±1%, 250mW, Through Hole Resistors, ROHS; Value: 10kΩ
footprint RES_THD (Resistor, Through Hole)
footprint RES_THD/SMD_R0603_R0402_THD (Resistor, Through Hole)
footprint RES_THD/SMD_R0603_THD (Resistor, Through Hole)
footprint RES_THD/SMD_VERTICAL_R0603_THD (Resistor, Through Hole & SMD, Vertical Mount)
footprint RES_THD_VERTICAL (Resistor, Through Hole, Vertical Mount)
footprint RES_THD/SMD_R0603_R0402_10K_THD (Resistor, Through Hole)
footprint RES_THD/SMD_VERTICAL_R0603_R0402_10K_THD (Resistor, Through Hole & SMD 0603, Vertical Mount, THD 3D Model 10k, ±1%)
footprint RES_THD/SMD_R0603_R0402_BOTTOM_10K_THD
pins: 1, 2

## RES_THD/SMD_33KΩ_R0603_R0402_SMD
designator R?, comment 33kΩ
Resistor, Thick Film Resistor, SMD, 33kΩ, ±5%, Chip Resistor - Surface Mount, ROHS; Value: 33kΩ
footprint RES_THD/SMD_R0603_R0402_SMD (Resistor, Through Hole)
footprint RES_THD/SMD_R0603_SMD (Resistor, Through Hole)
footprint RES_THD/SMD_VERTICAL_R0603_SMD (Resistor, Through Hole & SMD, Vertical Mount)
footprint RES_THD/SMD_R0603_R0402_33K_SMD (Resistor, Through Hole)
footprint RES_THD/SMD_VERTICAL_R0603_R0402_33K_SMD (Resistor, Through Hole & SMD 0603, Vertical Mount, SMD 3D Model 33k, ±1%)
pins: 1, 2

## RES_THD/SMD_33KΩ_R0603_R0402_THD
designator R?, comment 33kΩ
Resistor, Metal Film Resistor, Through Hole, D2.3xL6.5mm, 33kΩ, ±1%, 250mW, Through Hole Resistors, ROHS; Value: 33kΩ
footprint RES_THD (Resistor, Through Hole)
footprint RES_THD/SMD_R0603_R0402_THD (Resistor, Through Hole)
footprint RES_THD/SMD_R0603_THD (Resistor, Through Hole)
footprint RES_THD/SMD_VERTICAL_R0603_THD (Resistor, Through Hole & SMD, Vertical Mount)
footprint RES_THD_VERTICAL (Resistor, Through Hole, Vertical Mount)
footprint RES_THD/SMD_R0603_R0402_33K_THD (Resistor, Through Hole)
footprint RES_THD/SMD_VERTICAL_R0603_R0402_33K_THD (Resistor, Through Hole & SMD 0603, Vertical Mount, THD 3D Model 33k, ±1%)
pins: 1, 2

## RES_THD/SMD_56KΩ_R0603_R0402_SMD
designator R?, comment 56kΩ
Resistor, Thick Film Resistor, SMD, 56kΩ, ±5%, Chip Resistor - Surface Mount, ROHS; Value: 56kΩ
footprint RES_THD/SMD_R0603_R0402_SMD (Resistor, Through Hole)
footprint RES_THD/SMD_R0603_SMD (Resistor, Through Hole)
footprint RES_THD/SMD_VERTICAL_R0603_SMD (Resistor, Through Hole & SMD, Vertical Mount)
footprint RES_THD/SMD_R0603_R0402_56K_SMD (Resistor, Through Hole)
footprint RES_THD/SMD_VERTICAL_R0603_R0402_56K_SMD (Resistor, Through Hole & SMD 0603, Vertical Mount, SMD 3D Model 56k, ±1%)
pins: 1, 2

## RES_THD/SMD_56KΩ_R0603_R0402_THD
designator R?, comment 56kΩ
Resistor, Metal Film Resistor, Through Hole, D2.3xL6.5mm, 56kΩ, ±1%, 250mW, Through Hole Resistors, ROHS; Value: 56kΩ
footprint RES_THD (Resistor, Through Hole)
footprint RES_THD/SMD_R0603_R0402_THD (Resistor, Through Hole)
footprint RES_THD/SMD_R0603_THD (Resistor, Through Hole)
footprint RES_THD/SMD_VERTICAL_R0603_THD (Resistor, Through Hole & SMD, Vertical Mount)
footprint RES_THD_VERTICAL (Resistor, Through Hole, Vertical Mount)
footprint RES_THD/SMD_R0603_R0402_56K_THD (Resistor, Through Hole)
footprint RES_THD/SMD_VERTICAL_R0603_R0402_56K_THD (Resistor, Through Hole & SMD 0603, Vertical Mount, THD 3D Model 56k, ±1%)
pins: 1, 2

## RES_THD/SMD_100Ω_R0603_R0402_SMD
designator R?, comment 100Ω
Resistor, Thick Film Resistor, SMD, 100Ω, ±5%, Chip Resistor - Surface Mount, ROHS; Value: 100Ω
footprint RES_THD/SMD_R0603_R0402_SMD (Resistor, Through Hole)
footprint RES_THD/SMD_R0603_SMD (Resistor, Through Hole)
footprint RES_THD/SMD_VERTICAL_R0603_SMD (Resistor, Through Hole & SMD, Vertical Mount)
footprint RES_THD/SMD_R0603_R0402_100OHM_SMD (Resistor, Through Hole)
footprint RES_THD/SMD_VERTICAL_R0603_R0402_100OHM_SMD (Resistor, Through Hole & SMD 0603, Vertical Mount, SMD 3D Model 100Ohm, ±1%)
pins: 1, 2

## RES_THD/SMD_100Ω_R0603_R0402_THD
designator R?, comment 100Ω
Resistor, Metal Film Resistor, Through Hole, D2.3xL6.5mm, 100Ω, ±1%, 250mW, Through Hole Resistors, ROHS; Value: 100Ω
footprint RES_THD (Resistor, Through Hole)
footprint RES_THD/SMD_R0603_R0402_THD (Resistor, Through Hole)
footprint RES_THD/SMD_R0603_THD (Resistor, Through Hole)
footprint RES_THD/SMD_VERTICAL_R0603_THD (Resistor, Through Hole & SMD, Vertical Mount)
footprint RES_THD_VERTICAL (Resistor, Through Hole, Vertical Mount)
footprint RES_THD/SMD_R0603_R0402_100OHM_THD (Resistor, Through Hole)
footprint RES_THD/SMD_VERTICAL_R0603_R0402_100OHM_THD (Resistor, Through Hole & SMD 0603, Vertical Mount, THD 3D Model 100Ohm, ±1%)
pins: 1, 2

## RES_THD/SMD_200Ω_R0603_R0402_SMD
designator R?, comment 200Ω
Resistor, Thick Film Resistor, SMD, 200Ω, ±5%, Chip Resistor - Surface Mount, ROHS; Value: 200Ω
footprint RES_THD/SMD_R0603_R0402_SMD (Resistor, Through Hole)
footprint RES_THD/SMD_R0603_SMD (Resistor, Through Hole)
footprint RES_THD/SMD_VERTICAL_R0603_SMD (Resistor, Through Hole & SMD, Vertical Mount)
footprint RES_THD/SMD_R0603_R0402_200OHM_SMD (Resistor, Through Hole)
footprint RES_THD/SMD_VERTICAL_R0603_R0402_200OHM_SMD (Resistor, Through Hole & SMD 0603, Vertical Mount, SMD 3D Model 200Ohm, ±1%)
pins: 1, 2

## RES_THD/SMD_200Ω_R0603_R0402_THD
designator R?, comment 200Ω
Resistor, Metal Film Resistor, Through Hole, D2.3xL6.5mm, 200Ω, ±1%, 250mW, Through Hole Resistors, ROHS; Value: 200Ω
footprint RES_THD (Resistor, Through Hole)
footprint RES_THD/SMD_R0603_R0402_THD (Resistor, Through Hole)
footprint RES_THD/SMD_R0603_THD (Resistor, Through Hole)
footprint RES_THD/SMD_VERTICAL_R0603_THD (Resistor, Through Hole & SMD, Vertical Mount)
footprint RES_THD_VERTICAL (Resistor, Through Hole, Vertical Mount)
footprint RES_THD/SMD_R0603_R0402_200OHM_THD (Resistor, Through Hole)
footprint RES_THD/SMD_VERTICAL_R0603_R0402_200OHM_THD (Resistor, Through Hole & SMD 0603, Vertical Mount, THD 3D Model 200Ohm, ±1%)
pins: 1, 2

## RES_THD/SMD_470Ω_R0603_R0402_SMD
designator R?, comment 470Ω
Resistor, Thick Film Resistor, SMD, 470Ω, ±5%, Chip Resistor - Surface Mount, ROHS; Value: 470Ω
footprint RES_THD/SMD_R0603_R0402_SMD (Resistor, Through Hole)
footprint RES_THD/SMD_R0603_SMD (Resistor, Through Hole)
footprint RES_THD/SMD_VERTICAL_R0603_SMD (Resistor, Through Hole & SMD, Vertical Mount)
footprint RES_THD/SMD_R0603_R0402_470OHM_SMD (Resistor, Through Hole)
footprint RES_THD/SMD_VERTICAL_R0603_R0402_470OHM_SMD (Resistor, Through Hole & SMD 0603, Vertical Mount, SMD 3D Model 470Ohm, ±1%)
pins: 1, 2

## RES_THD/SMD_470Ω_R0603_R0402_THD
designator R?, comment 470Ω
Resistor, Metal Film Resistor, Through Hole, D2.3xL6.5mm, 470Ω, ±1%, 250mW, Through Hole Resistors, ROHS; Value: 470Ω
footprint RES_THD (Resistor, Through Hole)
footprint RES_THD/SMD_R0603_R0402_THD (Resistor, Through Hole)
footprint RES_THD/SMD_R0603_THD (Resistor, Through Hole)
footprint RES_THD/SMD_VERTICAL_R0603_THD (Resistor, Through Hole & SMD, Vertical Mount)
footprint RES_THD_VERTICAL (Resistor, Through Hole, Vertical Mount)
footprint RES_THD/SMD_R0603_R0402_470OHM_THD (Resistor, Through Hole)
footprint RES_THD/SMD_VERTICAL_R0603_R0402_470OHM_THD (Resistor, Through Hole & SMD 0603, Vertical Mount, THD 3D Model 470Ohm, ±1%)
pins: 1, 2

## RES_THD/SMD_680kΩ_R0603_R0402_SMD
designator R?, comment 680kΩ
Resistor, Thick Film Resistor, SMD, 680kΩ, ±5%, Chip Resistor - Surface Mount, ROHS; Value: 680kΩ
footprint RES_THD/SMD_R0603_R0402_SMD (Resistor, Through Hole)
footprint RES_THD/SMD_R0603_SMD (Resistor, Through Hole)
footprint RES_THD/SMD_VERTICAL_R0603_SMD (Resistor, Through Hole & SMD, Vertical Mount)
footprint RES_THD/SMD_R0603_R0402_680K_SMD (Resistor, Through Hole)
footprint RES_THD/SMD_VERTICAL_R0603_R0402_680K_SMD (Resistor, Through Hole & SMD 0603, Vertical Mount, SMD 3D Model 680k, ±1%)
pins: 1, 2

## RES_THD/SMD_680kΩ_R0603_R0402_THD
designator R?, comment 680kΩ
Resistor, Metal Film Resistor, Through Hole, D2.3xL6.5mm, 680kΩ, ±1%, 250mW, Through Hole Resistors, ROHS; Value: 680kΩ
footprint RES_THD (Resistor, Through Hole)
footprint RES_THD/SMD_R0603_R0402_THD (Resistor, Through Hole)
footprint RES_THD/SMD_R0603_THD (Resistor, Through Hole)
footprint RES_THD/SMD_VERTICAL_R0603_THD (Resistor, Through Hole & SMD, Vertical Mount)
footprint RES_THD_VERTICAL (Resistor, Through Hole, Vertical Mount)
footprint RES_THD/SMD_R0603_R0402_680K_THD (Resistor, Through Hole)
footprint RES_THD/SMD_VERTICAL_R0603_R0402_680K_THD (Resistor, Through Hole & SMD 0603, Vertical Mount, THD 3D Model 680k, ±1%)
pins: 1, 2

## RES_THD_POT_1KΩ
designator R?, comment 1kΩ
Resistor, Potentiometer, Through Hole-3P, 7x6.6mm, 1kΩ, ±10%, 500mW, Potentiometers, Variable Resistors ROHS; Value: 1kΩ
footprint 3362W
pins: 1, 2, 3

## RES_THD_POT_10KΩ
designator R?, comment 10kΩ
Resistor, Potentiometer, Through Hole-3P, 7x6.6mm, 10kΩ, ±10%, 500mW, Potentiometers, Variable Resistors ROHS; Value: 10kΩ
footprint 3362W
pins: 1, 2, 3

## RES_THD_POT_20KΩ
designator R?, comment 20kΩ
Resistor, Potentiometer, Through Hole-3P, 7x6.6mm, 20kΩ, ±10%, 500mW, Potentiometers, Variable Resistors ROHS; Value: 20kΩ
footprint 3362W
pins: 1, 2, 3

## RES_THD_POT_50KΩ
designator R?, comment 50kΩ
Resistor, Potentiometer, Through Hole-3P, 7x6.6mm, 50kΩ, ±10%, 500mW, Potentiometers, Variable Resistors ROHS; Value: 50kΩ
footprint 3362W
pins: 1, 2, 3

## RES_THD_POT_100KΩ
designator R?, comment 100kΩ
Resistor, Potentiometer, Through Hole-3P, 7x6.6mm, 100kΩ, ±10%, 500mW, Potentiometers, Variable Resistors ROHS; Value: 100kΩ
footprint 3362W
pins: 1, 2, 3

## RESTH_SMD_10kΩ
designator R?, comment 10kΩ
Thermistor, SMD, NTC, 10kΩ, 3950K, ±1%, Thermistors, ROHS; Value: 10kΩ
footprint RES_SMD_R0201A_(M0603A) (Resistor, SMD, 0.5x0.25mm, 0201)
footprint RES_SMD_R0201_(M0603) (Resistor, SMD, 0.5x0.25mm, 0201)
footprint RES_SMD_R0402A_(M1005A) (Resistor, SMD, 1.0x0.5mm, 0402)
footprint RES_SMD_R0402_(M1005) (Resistor, SMD, 1.0x0.5mm, 0402)
footprint RES_SMD_R0603A_(M1608A) (Resistor, SMD, 1.6x0.8mm, 0603)
footprint RES_SMD_R0603_(M1608) (Resistor, SMD, 1.6x0.8mm, 0603)
footprint RES_SMD_R0805A_(M2012A) (Resistor, SMD, 2.0x1.3mm, 0805)
footprint RES_SMD_R0805_(M2012) (Resistor, SMD, 2.0x1.3mm, 0805)
footprint RES_SMD_R1206A_(M3216A) (Resistor, SMD, 3.2x1.6mm, 1206)
footprint RES_SMD_R1206_(M3216) (Resistor, SMD, 3.2x1.6mm, 1206)
footprint RES_SMD_R2512_(M6332) (Resistor, SMD, 2510)
pins: 1, 2